# Altium footprint library conn_sw.PCBLIB: 173 footprints (part 7 of 11)
Each footprint in its own frame and in the unit in brackets; x right, y up, seen from the top. Pads: shape width x height; smd on the part's side, far side on the other; paste and mask are expansions set on the pad; w line width, h text height; cw(c..) or ccw(c..) is an arc to the next point about the centre after c.
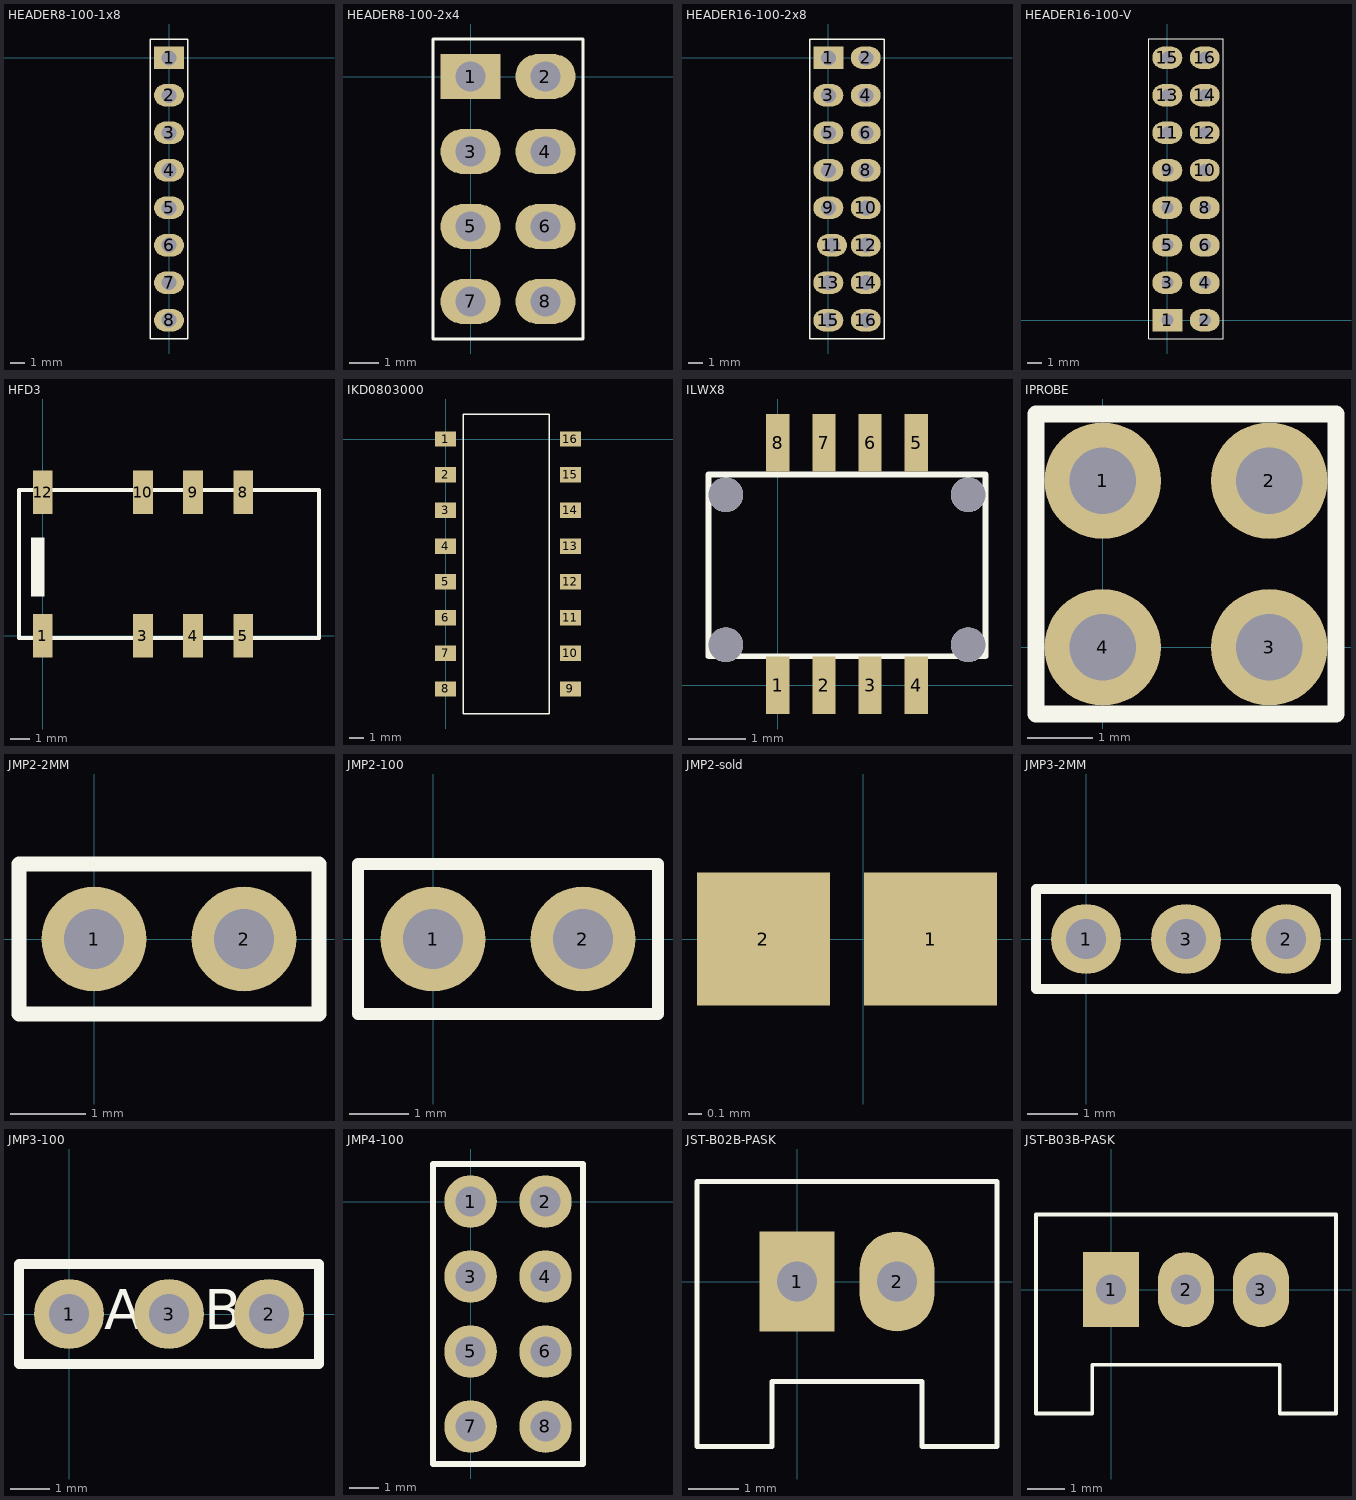
[diagram p6: the footprints below, top view; thin cyan lines are the x and y axes]

## HEADER8-100-1x8 [mil]
pads (8):
  rect 80x60 hole 40: 1(0,0)
  oval 80x60 hole 40: 2(0,-100) 3(0,-200) 4(0,-300) 5(0,-400) 6(0,-500) 7(0,-600) 8(0,-700)
Top Overlay:
  lines w3.94: -50,-750 50,-750 50,50 -50,50 -50,-750

## HEADER8-100-2x4 [mil]
pads (8):
  rect 80x60 hole 40: 1(0,0)
  oval 80x60 hole 40: 2(100,0) 3(0,-100) 4(100,-100) 5(0,-200) 6(100,-200) 7(0,-300) 8(100,-300)
Top Overlay:
  lines w3.94: -50,-350 150,-350 150,50 -50,50 -50,-350

## HEADER16-100-2x8 [mil]
pads (16):
  rect 80x60 hole 40: 1(0,0)
  oval 80x60 hole 40: 2(100,0) 3(0,-100) 4(100,-100) 5(0,-200) 6(100,-200) 7(0,-300) 8(100,-300) 9(0,-400) 10(100,-400) 11(10,-500) 12(100,-500) 13(0,-600) 14(100,-600) 15(0,-700) 16(100,-700)
Top Overlay:
  lines w3.94: -50,-750 -50,50 150,50 150,-750 -50,-750

## HEADER16-100-V [mil]
pads (16):
  rect 80x60 hole 32: 1(0,0)
  oval 80x60 hole 32: 2(100,0) 3(0,100) 4(100,100) 5(0,200) 6(100,200) 7(0,300) 8(100,300) 9(0,400) 10(100,400) 11(0,500) 12(100,500) 13(0,600) 14(100,600) 15(0,700) 16(100,700)
Top Overlay:
  lines w1.97: -50,-50 -50,750 150,750 150,-50 -50,-50

## HFD3 [mm]
pads (8):
  rect 1x2.2 smd: 1(0,0) 3(5.08,0) 4(7.62,0) 5(10.16,0) 8(10.16,7.29) 9(7.62,7.29) 10(5.08,7.29) 12(0,7.29)
Top Overlay:
  rectangle: -0.6,2 0.1,5
  lines w0.203: -1.2,-0.1 -1.2,7.4 14,7.4 14,-0.1 -1.2,-0.1

## IKD0803000 [mm]
pads (16):
  rect 1.5x1.1 smd: 1(0,0) 2(0,-2.54) 3(0,-5.08) 4(0,-7.62) 5(0,-10.16) 6(0,-12.7) 7(0,-15.24) 8(0,-17.78) 9(8.89,-17.78) 10(8.89,-15.24) 11(8.89,-12.7) 12(8.89,-10.16) 13(8.89,-7.62) 14(8.89,-5.08) 15(8.89,-2.54) 16(8.89,0)
Top Overlay:
  lines w0.1: 1.27,-19.558 1.27,1.778 7.366,1.778 7.366,-19.558 1.27,-19.558

## ILWX8 [mm]
pads (12):
  rect 0.4x1 smd: 1(0,0) 2(0.8,0) 3(1.6,0) 4(2.4,0) 5(2.4,4.2) 6(1.6,4.2) 7(0.8,4.2) 8(0,4.2)
  round 0.6 on Top Overlay hole 0.6: ""(-0.9,0.7) ""(-0.9,3.3) ""(3.3,0.7) ""(3.3,3.3)
Top Overlay:
  lines w0.1: -1.2,0.5 0,0.5 3.6,0.5 3.6,3.65 -1.2,3.65 -1.2,0.5

## IPROBE [mil]
pads (4):
  round 70 hole 40: 1(0,100) 2(100,100) 3(100,0) 4(0,0)
Top Overlay:
  lines w10: -40,-40 140,-40 140,140 -40,140 -40,-40

## JMP2-2MM [mm]
pads (2):
  round 1.4 hole 0.8: 1(0,0) 2(2,0)
Top Overlay:
  lines w0.203: -1,-1 -1,1 3,1 3,-1 -1,-1

## JMP2-100 [mil]
pads (2):
  round 70 hole 40: 1(0,0) 2(100,0)
Top Overlay:
  lines w8: -50,-50 -50,50 150,50 150,-50 -50,-50

## JMP2-sold [mm]
pads (2):
  rect 1x1 smd: 1(0.508,0) 2(-0.75,0)

## JMP3-2MM [mm]
pads (3):
  round 1.4 hole 0.8: 1(0,0) 2(4,0) 3(2,0)
Top Overlay:
  lines w0.203: -1,-1 -1,1 5,1 5,-1 -1,-1

## JMP3-100 [mil]
pads (3):
  round 70 hole 40: 1(0,0) 2(200,0) 3(100,0)
Top Overlay:
  lines w10: 30,-50 250,-50 250,50 -50,50 -50,-50 40,-50
  text "A" at 35,-15 h40
  text "B" at 135,-15 h40

## JMP4-100 [mil]
pads (8):
  round 70 hole 40: 1(0,0) 2(100,0) 3(0,-100) 4(100,-100) 5(0,-200) 6(100,-200) 7(0,-300) 8(100,-300)
Top Overlay:
  lines w8: -50,-350 -50,50 150,50 150,-350 -50,-350

## JST-B02B-PASK [mm]
height 6
pads (2):
  rect 1.5x2 hole 0.8: 1(0,0)
  oval 1.5x2 hole 0.8: 2(2,0)
Top Overlay:
  lines w0.1: -2,-3.3 -2,-2 -2,2 4,2 4,-2 4,-3.3 2.5,-3.3 2.5,-2 -0.5,-2 -0.5,-3.3 -2,-3.3

## JST-B03B-PASK [mm]
height 6
pads (3):
  rect 1.5x2 hole 0.8: 1(0,0)
  oval 1.5x2 hole 0.8: 2(2,0) 3(4,0)
Top Overlay:
  lines w0.1: -2,-3.3 -0.5,-3.3 -0.5,-2 4.5,-2 4.5,-3.3 6,-3.3 6,0 6,2 -2,2 -2,-2 -2,-3.3